# EAGLE library part FOLD_PIN_6 (library foldpin6)
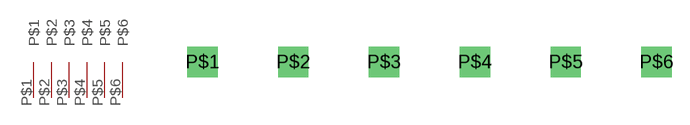
[diagram p0: symbol with the pads of FOLD_PIN_6; footprint FOLD_PIN_6]

Designator prefix -

## FOLD_PIN_6  [FOLD_PIN_6]
P$1  P$1
P$2  P$2
P$3  P$3
P$4  P$4
P$5  P$5
P$6  P$6

## Footprint FOLD_PIN_6 (pad centres in mm)
drill 0.6 pad 2.54 square: P$1 1.27,5.08; P$2 8.89,5.08; P$3 16.51,5.08; P$4 24.13,5.08; P$5 31.75,5.08; P$6 39.37,5.08